# EAGLE library part LCD_NHD-C0216CIZ (library heck)
LCD Display 2x16 character, I2C, Digikey P/N: NHD-C0216CIZ-FSW-FBW-3V3-ND
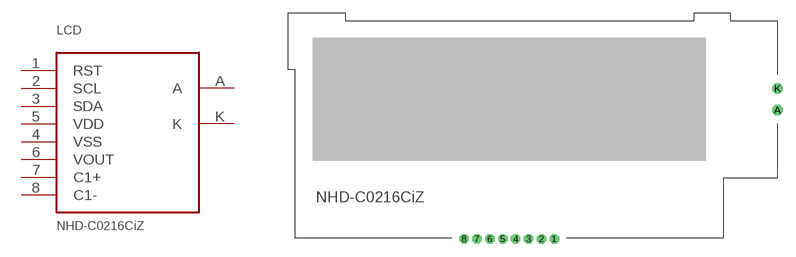
[diagram p39: symbol with the pads of LCD_NHD-C0216CIZ; footprint LCD_NHD-C0216CIZ]

Designator prefix LCD

## LCD_NHD-C0216CIZ  [LCD_NHD-C0216CIZ]
1  RST
2  SCL
3  SDA
4  VSS
5  VDD
6  VOUT
7  C1+
8  C1-
A  A
K  K

## Footprint LCD_NHD-C0216CIZ (pad centres in mm)
drill 0.6 octagon: 1 5.25,-16.2; 2 3.75,-16.2; 3 2.25,-16.2; 4 0.75,-16.2; 5 -0.75,-16.2; 6 -2.25,-16.2; 7 -3.75,-16.2; 8 -5.25,-16.2
drill 0.7 octagon: A 31.15,-1.25; K 31.15,1.25